# EAGLE library part ADI-PHASE-2_ADV7611BSWZ-P (library videobrick_alpha4_eagle_footprints)
Low Power 165 MHz HDMI Receiver,LQFP-64
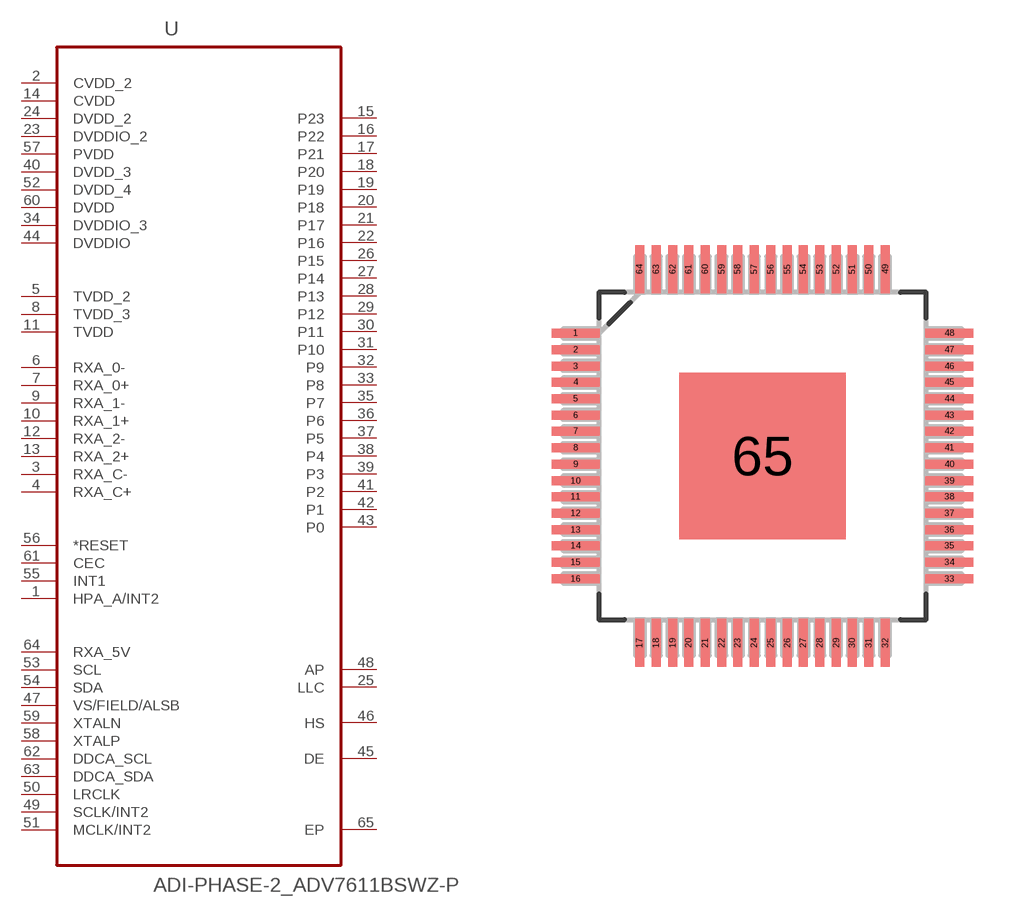
[diagram p1: symbol with the pads of ADI-PHASE-2_QFP50P1200X1200X160-65N; footprint ADI-PHASE-2_QFP50P1200X1200X160-65N]

Designator prefix U

## ADI-PHASE-2_ADV7611BSWZ-P (MPN: ADV7611BSWZ-P; OC_FARNELL: 1903660; OC_NEWARK: 45T0201; PACKAGE: LQFP-64; SUPPLIER: Analog Devices)  [ADI-PHASE-2_QFP50P1200X1200X160-65N]
1  HPA_A/INT2  in
2  CVDD_2  pwr
3  RXA_C-  in
4  RXA_C+  in
5  TVDD_2  pwr
6  RXA_0-  in
7  RXA_0+  in
8  TVDD_3  pwr
9  RXA_1-  in
10  RXA_1+  in
11  TVDD  pwr
12  RXA_2-  in
13  RXA_2+  in
14  CVDD  pwr
15  P23  out
16  P22  out
17  P21  out
18  P20  out
19  P19  out
20  P18  out
21  P17  out
22  P16  out
23  DVDDIO_2  pwr
24  DVDD_2  pwr
25  LLC  in
26  P15  out
27  P14  out
28  P13  out
29  P12  out
30  P11  out
31  P10  out
32  P9  out
33  P8  out
34  DVDDIO_3  pwr
35  P7  out
36  P6  out
37  P5  out
38  P4  out
39  P3  out
40  DVDD_3  pwr
41  P2  out
42  P1  out
43  P0  out
44  DVDDIO  pwr
45  DE  in
46  HS  out
47  VS/FIELD/ALSB  in
48  AP  out
49  SCLK/INT2  in
50  LRCLK  in
51  MCLK/INT2  in
52  DVDD_4  pwr
53  SCL  in
54  SDA
55  INT1  in
56  *RESET  in
57  PVDD  pwr
58  XTALP  in
59  XTALN  in
60  DVDD  pwr
61  CEC  in
62  DDCA_SCL  in
63  DDCA_SDA  in
64  RXA_5V  in
65  EP  pas

## Footprint ADI-PHASE-2_QFP50P1200X1200X160-65N (pad centres in mm)
smd 1.473 x 0.279: 1 -5.715,3.759; 2 -5.715,3.251; 3 -5.715,2.743; 4 -5.715,2.261; 5 -5.715,1.753; 6 -5.715,1.245; 7 -5.715,0.762; 8 -5.715,0.254; 9 -5.715,-0.254; 10 -5.715,-0.762; 11 -5.715,-1.245; 12 -5.715,-1.753; 13 -5.715,-2.261; 14 -5.715,-2.743; 15 -5.715,-3.251; 16 -5.715,-3.759; 33 5.715,-3.759; 34 5.715,-3.251; 35 5.715,-2.743; 36 5.715,-2.261; 37 5.715,-1.753; 38 5.715,-1.245; 39 5.715,-0.762; 40 5.715,-0.254; 41 5.715,0.254; 42 5.715,0.762; 43 5.715,1.245; 44 5.715,1.753; 45 5.715,2.261; 46 5.715,2.743; 47 5.715,3.251; 48 5.715,3.759
smd 0.279 x 1.473: 17 -3.759,-5.715; 18 -3.251,-5.715; 19 -2.743,-5.715; 20 -2.261,-5.715; 21 -1.753,-5.715; 22 -1.245,-5.715; 23 -0.762,-5.715; 24 -0.254,-5.715; 25 0.254,-5.715; 26 0.762,-5.715; 27 1.245,-5.715; 28 1.753,-5.715; 29 2.261,-5.715; 30 2.743,-5.715; 31 3.251,-5.715; 32 3.759,-5.715; 49 3.759,5.715; 50 3.251,5.715; 51 2.743,5.715; 52 2.261,5.715; 53 1.753,5.715; 54 1.245,5.715; 55 0.762,5.715; 56 0.254,5.715; 57 -0.254,5.715; 58 -0.762,5.715; 59 -1.245,5.715; 60 -1.753,5.715; 61 -2.261,5.715; 62 -2.743,5.715; 63 -3.251,5.715; 64 -3.759,5.715
smd 5.105 x 5.105: 65 0,0